# Altium footprint library QFP_Thin_Sq_40P_Side_M.PcbLib: 9 footprints
Each footprint in its own frame and in the unit in brackets; x right, y up, seen from the top. Pads: shape width x height; smd on the part's side, far side on the other; paste and mask are expansions set on the pad; w line width, h text height; cw(c..) or ccw(c..) is an arc to the next point about the centre after c.
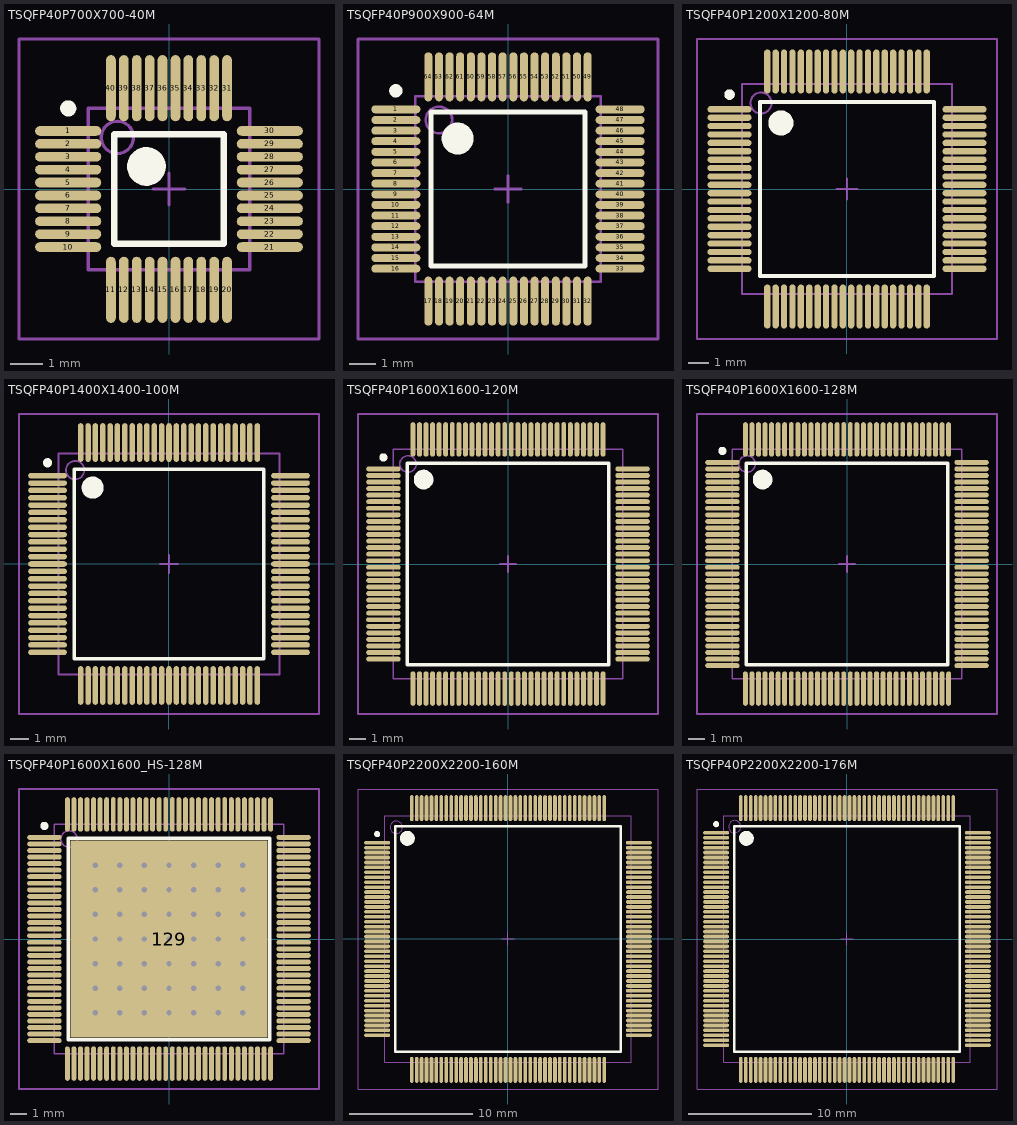
[diagram p0: the footprints below, top view; thin cyan lines are the x and y axes]

## TSQFP40P700X700-40M [mm] "Thin QFP, 40-Leads, Body 5x5mm, Pitch 0.4mm, IPC Low Density"
height 1.2
pads (40):
  oval 2.05x0.3 smd: 1(-3.125,1.8) 2(-3.125,1.4) 3(-3.125,1) 4(-3.125,0.6) 5(-3.125,0.2) 6(-3.125,-0.2) 7(-3.125,-0.6) 8(-3.125,-1) 9(-3.125,-1.4) 10(-3.125,-1.8) 21(3.125,-1.8) 22(3.125,-1.4) 23(3.125,-1) 24(3.125,-0.6) 25(3.125,-0.2) 26(3.125,0.2) 27(3.125,0.6) 28(3.125,1) 29(3.125,1.4) 30(3.125,1.8)
  oval 0.3x2.05 smd: 11(-1.8,-3.125) 12(-1.4,-3.125) 13(-1,-3.125) 14(-0.6,-3.125) 15(-0.2,-3.125) 16(0.2,-3.125) 17(0.6,-3.125) 18(1,-3.125) 19(1.4,-3.125) 20(1.8,-3.125) 31(1.8,3.125) 32(1.4,3.125) 33(1,3.125) 34(0.6,3.125) 35(0.2,3.125) 36(-0.2,3.125) 37(-0.6,3.125) 38(-1,3.125) 39(-1.4,3.125) 40(-1.8,3.125)
Top Overlay:
  circle w0.25: c-3.125,2.5 r0.125
  circle w0.6: c-0.7,0.7 r0.3
  lines w0.2: -1.7,-1.7 -1.7,1.7 1.7,1.7 1.7,-1.7 -1.7,-1.7
Mechanical 13:
  circle w0.1: c-1.6,1.6 r0.5
  lines w0.1: -2.5,-2.5 -2.5,2.5 2.5,2.5 2.5,-2.5 -2.5,-2.5
Mechanical 15:
  lines w0.1: -0.5,0 0.5,0 ; 0,-0.5 0,0.5 ; -4.65,-4.65 -4.65,4.65 4.65,4.65 4.65,-4.65 -4.65,-4.65
3D body: height 1.2, standoff 0, extent -2.5,-2.5 2.5,2.5

## TSQFP40P900X900-64M [mm] "Thin QFP, 64-Leads, Body 7x7mm, Pitch 0.4mm, IPC Low Density"
height 1.2
pads (64):
  oval 1.85x0.3 smd: 1(-4.225,3) 2(-4.225,2.6) 3(-4.225,2.2) 4(-4.225,1.8) 5(-4.225,1.4) 6(-4.225,1) 7(-4.225,0.6) 8(-4.225,0.2) 9(-4.225,-0.2) 10(-4.225,-0.6) 11(-4.225,-1) 12(-4.225,-1.4) 13(-4.225,-1.8) 14(-4.225,-2.2) 15(-4.225,-2.6) 16(-4.225,-3) 33(4.225,-3) 34(4.225,-2.6) 35(4.225,-2.2) 36(4.225,-1.8) 37(4.225,-1.4) 38(4.225,-1) 39(4.225,-0.6) 40(4.225,-0.2) 41(4.225,0.2) 42(4.225,0.6) 43(4.225,1) 44(4.225,1.4) 45(4.225,1.8) 46(4.225,2.2) 47(4.225,2.6) 48(4.225,3)
  oval 0.3x1.85 smd: 17(-3,-4.225) 18(-2.6,-4.225) 19(-2.2,-4.225) 20(-1.8,-4.225) 21(-1.4,-4.225) 22(-1,-4.225) 23(-0.6,-4.225) 24(-0.2,-4.225) 25(0.2,-4.225) 26(0.6,-4.225) 27(1,-4.225) 28(1.4,-4.225) 29(1.8,-4.225) 30(2.2,-4.225) 31(2.6,-4.225) 32(3,-4.225) 49(3,4.225) 50(2.6,4.225) 51(2.2,4.225) 52(1.8,4.225) 53(1.4,4.225) 54(1,4.225) 55(0.6,4.225) 56(0.2,4.225) 57(-0.2,4.225) 58(-0.6,4.225) 59(-1,4.225) 60(-1.4,4.225) 61(-1.8,4.225) 62(-2.2,4.225) 63(-2.6,4.225) 64(-3,4.225)
Top Overlay:
  circle w0.25: c-4.225,3.7 r0.125
  circle w0.6: c-1.9,1.9 r0.3
  lines w0.2: -2.9,-2.9 -2.9,2.9 2.9,2.9 2.9,-2.9 -2.9,-2.9
Mechanical 13:
  circle w0.1: c-2.6,2.6 r0.5
  lines w0.1: -3.5,-3.5 -3.5,3.5 3.5,3.5 3.5,-3.5 -3.5,-3.5
Mechanical 15:
  lines w0.1: -0.5,0 0.5,0 ; 0,-0.5 0,0.5 ; -5.65,-5.65 -5.65,5.65 5.65,5.65 5.65,-5.65 -5.65,-5.65
3D body: height 1.2, standoff 0, extent -3.5,-3.5 3.5,3.5

## TSQFP40P1200X1200-80M [mm] "Thin QFP, 80-Leads, Body 10x10mm, Pitch 0.4mm, IPC Low Density"
height 1.2
pads (80):
  oval 2.1x0.3 smd: 1(-5.6,3.8) 2(-5.6,3.4) 3(-5.6,3) 4(-5.6,2.6) 5(-5.6,2.2) 6(-5.6,1.8) 7(-5.6,1.4) 8(-5.6,1) 9(-5.6,0.6) 10(-5.6,0.2) 11(-5.6,-0.2) 12(-5.6,-0.6) 13(-5.6,-1) 14(-5.6,-1.4) 15(-5.6,-1.8) 16(-5.6,-2.2) 17(-5.6,-2.6) 18(-5.6,-3) 19(-5.6,-3.4) 20(-5.6,-3.8) 41(5.6,-3.8) 42(5.6,-3.4) 43(5.6,-3) 44(5.6,-2.6) 45(5.6,-2.2) 46(5.6,-1.8) 47(5.6,-1.4) 48(5.6,-1) 49(5.6,-0.6) 50(5.6,-0.2) 51(5.6,0.2) 52(5.6,0.6) 53(5.6,1) 54(5.6,1.4) 55(5.6,1.8) 56(5.6,2.2) 57(5.6,2.6) 58(5.6,3) 59(5.6,3.4) 60(5.6,3.8)
  oval 0.3x2.1 smd: 21(-3.8,-5.6) 22(-3.4,-5.6) 23(-3,-5.6) 24(-2.6,-5.6) 25(-2.2,-5.6) 26(-1.8,-5.6) 27(-1.4,-5.6) 28(-1,-5.6) 29(-0.6,-5.6) 30(-0.2,-5.6) 31(0.2,-5.6) 32(0.6,-5.6) 33(1,-5.6) 34(1.4,-5.6) 35(1.8,-5.6) 36(2.2,-5.6) 37(2.6,-5.6) 38(3,-5.6) 39(3.4,-5.6) 40(3.8,-5.6) 61(3.8,5.6) 62(3.4,5.6) 63(3,5.6) 64(2.6,5.6) 65(2.2,5.6) 66(1.8,5.6) 67(1.4,5.6) 68(1,5.6) 69(0.6,5.6) 70(0.2,5.6) 71(-0.2,5.6) 72(-0.6,5.6) 73(-1,5.6) 74(-1.4,5.6) 75(-1.8,5.6) 76(-2.2,5.6) 77(-2.6,5.6) 78(-3,5.6) 79(-3.4,5.6) 80(-3.8,5.6)
Top Overlay:
  circle w0.25: c-5.6,4.5 r0.125
  circle w0.6: c-3.15,3.15 r0.3
  lines w0.2: -4.15,-4.15 -4.15,4.15 4.15,4.15 4.15,-4.15 -4.15,-4.15
Mechanical 13:
  circle w0.1: c-4.1,4.1 r0.5
  lines w0.1: -5,-5 -5,5 5,5 5,-5 -5,-5
Mechanical 15:
  lines w0.1: -0.5,0 0.5,0 ; 0,-0.5 0,0.5 ; -7.15,-7.15 -7.15,7.15 7.15,7.15 7.15,-7.15 -7.15,-7.15
3D body: height 1.2, standoff 0, extent -5,-5 5,5

## TSQFP40P1400X1400-100M [mm] "Thin QFP, 100-Leads, Body 12x12mm, Pitch 0.4mm, IPC Low Density"
height 1.2
pads (100):
  oval 2.1x0.3 smd: 1(-6.6,4.8) 2(-6.6,4.4) 3(-6.6,4) 4(-6.6,3.6) 5(-6.6,3.2) 6(-6.6,2.8) 7(-6.6,2.4) 8(-6.6,2) 9(-6.6,1.6) 10(-6.6,1.2) 11(-6.6,0.8) 12(-6.6,0.4) 13(-6.6,0) 14(-6.6,-0.4) 15(-6.6,-0.8) 16(-6.6,-1.2) 17(-6.6,-1.6) 18(-6.6,-2) 19(-6.6,-2.4) 20(-6.6,-2.8) 21(-6.6,-3.2) 22(-6.6,-3.6) 23(-6.6,-4) 24(-6.6,-4.4) 25(-6.6,-4.8) 51(6.6,-4.8) 52(6.6,-4.4) 53(6.6,-4) 54(6.6,-3.6) 55(6.6,-3.2) 56(6.6,-2.8) 57(6.6,-2.4) 58(6.6,-2) 59(6.6,-1.6) 60(6.6,-1.2) 61(6.6,-0.8) 62(6.6,-0.4) 63(6.6,0) 64(6.6,0.4) 65(6.6,0.8) 66(6.6,1.2) 67(6.6,1.6) 68(6.6,2) 69(6.6,2.4) 70(6.6,2.8) 71(6.6,3.2) 72(6.6,3.6) 73(6.6,4) 74(6.6,4.4) 75(6.6,4.8)
  oval 0.3x2.1 smd: 26(-4.8,-6.6) 27(-4.4,-6.6) 28(-4,-6.6) 29(-3.6,-6.6) 30(-3.2,-6.6) 31(-2.8,-6.6) 32(-2.4,-6.6) 33(-2,-6.6) 34(-1.6,-6.6) 35(-1.2,-6.6) 36(-0.8,-6.6) 37(-0.4,-6.6) 38(0,-6.6) 39(0.4,-6.6) 40(0.8,-6.6) 41(1.2,-6.6) 42(1.6,-6.6) 43(2,-6.6) 44(2.4,-6.6) 45(2.8,-6.6) 46(3.2,-6.6) 47(3.6,-6.6) 48(4,-6.6) 49(4.4,-6.6) 50(4.8,-6.6) 76(4.8,6.6) 77(4.4,6.6) 78(4,6.6) 79(3.6,6.6) 80(3.2,6.6) 81(2.8,6.6) 82(2.4,6.6) 83(2,6.6) 84(1.6,6.6) 85(1.2,6.6) 86(0.8,6.6) 87(0.4,6.6) 88(0,6.6) 89(-0.4,6.6) 90(-0.8,6.6) 91(-1.2,6.6) 92(-1.6,6.6) 93(-2,6.6) 94(-2.4,6.6) 95(-2.8,6.6) 96(-3.2,6.6) 97(-3.6,6.6) 98(-4,6.6) 99(-4.4,6.6) 100(-4.8,6.6)
Top Overlay:
  circle w0.25: c-6.6,5.5 r0.125
  circle w0.6: c-4.15,4.15 r0.3
  lines w0.2: -5.15,-5.15 -5.15,5.15 5.15,5.15 5.15,-5.15 -5.15,-5.15
Mechanical 13:
  circle w0.1: c-5.1,5.1 r0.5
  lines w0.1: -6,-6 -6,6 6,6 6,-6 -6,-6
Mechanical 15:
  lines w0.1: -0.5,0 0.5,0 ; 0,-0.5 0,0.5 ; -8.15,-8.15 -8.15,8.15 8.15,8.15 8.15,-8.15 -8.15,-8.15
3D body: height 1.2, standoff 0, extent -6,-6 6,6

## TSQFP40P1600X1600-120M [mm] "Thin QFP, 120-Leads, Body 14x14mm, Pitch 0.4mm, IPC Low Density"
height 1.2
pads (120):
  oval 2.1x0.3 smd: 1(-7.6,5.8) 2(-7.6,5.4) 3(-7.6,5) 4(-7.6,4.6) 5(-7.6,4.2) 6(-7.6,3.8) 7(-7.6,3.4) 8(-7.6,3) 9(-7.6,2.6) 10(-7.6,2.2) 11(-7.6,1.8) 12(-7.6,1.4) 13(-7.6,1) 14(-7.6,0.6) 15(-7.6,0.2) 16(-7.6,-0.2) 17(-7.6,-0.6) 18(-7.6,-1) 19(-7.6,-1.4) 20(-7.6,-1.8) 21(-7.6,-2.2) 22(-7.6,-2.6) 23(-7.6,-3) 24(-7.6,-3.4) 25(-7.6,-3.8) 26(-7.6,-4.2) 27(-7.6,-4.6) 28(-7.6,-5) 29(-7.6,-5.4) 30(-7.6,-5.8) 61(7.6,-5.8) 62(7.6,-5.4) 63(7.6,-5) 64(7.6,-4.6) 65(7.6,-4.2) 66(7.6,-3.8) 67(7.6,-3.4) 68(7.6,-3) 69(7.6,-2.6) 70(7.6,-2.2) 71(7.6,-1.8) 72(7.6,-1.4) 73(7.6,-1) 74(7.6,-0.6) 75(7.6,-0.2) 76(7.6,0.2) 77(7.6,0.6) 78(7.6,1) 79(7.6,1.4) 80(7.6,1.8) 81(7.6,2.2) 82(7.6,2.6) 83(7.6,3) 84(7.6,3.4) 85(7.6,3.8) 86(7.6,4.2) 87(7.6,4.6) 88(7.6,5) 89(7.6,5.4) 90(7.6,5.8)
  oval 0.3x2.1 smd: 31(-5.8,-7.6) 32(-5.4,-7.6) 33(-5,-7.6) 34(-4.6,-7.6) 35(-4.2,-7.6) 36(-3.8,-7.6) 37(-3.4,-7.6) 38(-3,-7.6) 39(-2.6,-7.6) 40(-2.2,-7.6) 41(-1.8,-7.6) 42(-1.4,-7.6) 43(-1,-7.6) 44(-0.6,-7.6) 45(-0.2,-7.6) 46(0.2,-7.6) 47(0.6,-7.6) 48(1,-7.6) 49(1.4,-7.6) 50(1.8,-7.6) 51(2.2,-7.6) 52(2.6,-7.6) 53(3,-7.6) 54(3.4,-7.6) 55(3.8,-7.6) 56(4.2,-7.6) 57(4.6,-7.6) 58(5,-7.6) 59(5.4,-7.6) 60(5.8,-7.6) 91(5.8,7.6) 92(5.4,7.6) 93(5,7.6) 94(4.6,7.6) 95(4.2,7.6) 96(3.8,7.6) 97(3.4,7.6) 98(3,7.6) 99(2.6,7.6) 100(2.2,7.6) 101(1.8,7.6) 102(1.4,7.6) 103(1,7.6) 104(0.6,7.6) 105(0.2,7.6) 106(-0.2,7.6) 107(-0.6,7.6) 108(-1,7.6) 109(-1.4,7.6) 110(-1.8,7.6) 111(-2.2,7.6) 112(-2.6,7.6) 113(-3,7.6) 114(-3.4,7.6) 115(-3.8,7.6) 116(-4.2,7.6) 117(-4.6,7.6) 118(-5,7.6) 119(-5.4,7.6) 120(-5.8,7.6)
Top Overlay:
  circle w0.25: c-7.6,6.5 r0.125
  circle w0.6: c-5.15,5.15 r0.3
  lines w0.2: -6.15,-6.15 -6.15,6.15 6.15,6.15 6.15,-6.15 -6.15,-6.15
Mechanical 13:
  circle w0.1: c-6.1,6.1 r0.5
  lines w0.1: -7,-7 -7,7 7,7 7,-7 -7,-7
Mechanical 15:
  lines w0.1: -0.5,0 0.5,0 ; 0,-0.5 0,0.5 ; -9.15,-9.15 -9.15,9.15 9.15,9.15 9.15,-9.15 -9.15,-9.15
3D body: height 1.2, standoff 0, extent -7,-7 7,7

## TSQFP40P1600X1600-128M [mm] "Thin QFP, 128-Leads, Body 14x14mm, Pitch 0.4mm, IPC Low Density"
height 1.6
pads (128):
  oval 2.1x0.3 smd: 1(-7.6,6.2) 2(-7.6,5.8) 3(-7.6,5.4) 4(-7.6,5) 5(-7.6,4.6) 6(-7.6,4.2) 7(-7.6,3.8) 8(-7.6,3.4) 9(-7.6,3) 10(-7.6,2.6) 11(-7.6,2.2) 12(-7.6,1.8) 13(-7.6,1.4) 14(-7.6,1) 15(-7.6,0.6) 16(-7.6,0.2) 17(-7.6,-0.2) 18(-7.6,-0.6) 19(-7.6,-1) 20(-7.6,-1.4) 21(-7.6,-1.8) 22(-7.6,-2.2) 23(-7.6,-2.6) 24(-7.6,-3) 25(-7.6,-3.4) 26(-7.6,-3.8) 27(-7.6,-4.2) 28(-7.6,-4.6) 29(-7.6,-5) 30(-7.6,-5.4) 31(-7.6,-5.8) 32(-7.6,-6.2) 65(7.6,-6.2) 66(7.6,-5.8) 67(7.6,-5.4) 68(7.6,-5) 69(7.6,-4.6) 70(7.6,-4.2) 71(7.6,-3.8) 72(7.6,-3.4) 73(7.6,-3) 74(7.6,-2.6) 75(7.6,-2.2) 76(7.6,-1.8) 77(7.6,-1.4) 78(7.6,-1) 79(7.6,-0.6) 80(7.6,-0.2) 81(7.6,0.2) 82(7.6,0.6) 83(7.6,1) 84(7.6,1.4) 85(7.6,1.8) 86(7.6,2.2) 87(7.6,2.6) 88(7.6,3) 89(7.6,3.4) 90(7.6,3.8) 91(7.6,4.2) 92(7.6,4.6) 93(7.6,5) 94(7.6,5.4) 95(7.6,5.8) 96(7.6,6.2)
  oval 0.3x2.1 smd: 33(-6.2,-7.6) 34(-5.8,-7.6) 35(-5.4,-7.6) 36(-5,-7.6) 37(-4.6,-7.6) 38(-4.2,-7.6) 39(-3.8,-7.6) 40(-3.4,-7.6) 41(-3,-7.6) 42(-2.6,-7.6) 43(-2.2,-7.6) 44(-1.8,-7.6) 45(-1.4,-7.6) 46(-1,-7.6) 47(-0.6,-7.6) 48(-0.2,-7.6) 49(0.2,-7.6) 50(0.6,-7.6) 51(1,-7.6) 52(1.4,-7.6) 53(1.8,-7.6) 54(2.2,-7.6) 55(2.6,-7.6) 56(3,-7.6) 57(3.4,-7.6) 58(3.8,-7.6) 59(4.2,-7.6) 60(4.6,-7.6) 61(5,-7.6) 62(5.4,-7.6) 63(5.8,-7.6) 64(6.2,-7.6) 97(6.2,7.6) 98(5.8,7.6) 99(5.4,7.6) 100(5,7.6) 101(4.6,7.6) 102(4.2,7.6) 103(3.8,7.6) 104(3.4,7.6) 105(3,7.6) 106(2.6,7.6) 107(2.2,7.6) 108(1.8,7.6) 109(1.4,7.6) 110(1,7.6) 111(0.6,7.6) 112(0.2,7.6) 113(-0.2,7.6) 114(-0.6,7.6) 115(-1,7.6) 116(-1.4,7.6) 117(-1.8,7.6) 118(-2.2,7.6) 119(-2.6,7.6) 120(-3,7.6) 121(-3.4,7.6) 122(-3.8,7.6) 123(-4.2,7.6) 124(-4.6,7.6) 125(-5,7.6) 126(-5.4,7.6) 127(-5.8,7.6) 128(-6.2,7.6)
Top Overlay:
  circle w0.25: c-7.6,6.9 r0.125
  circle w0.6: c-5.15,5.15 r0.3
  lines w0.2: -6.15,-6.15 -6.15,6.15 6.15,6.15 6.15,-6.15 -6.15,-6.15
Mechanical 13:
  circle w0.1: c-6.1,6.1 r0.5
  lines w0.1: -7,-7 -7,7 7,7 7,-7 -7,-7
Mechanical 15:
  lines w0.1: -0.5,0 0.5,0 ; 0,-0.5 0,0.5 ; -9.15,-9.15 -9.15,9.15 9.15,9.15 9.15,-9.15 -9.15,-9.15
3D body: height 1.6, standoff 0, extent -7,-7 7,7

## TSQFP40P1600X1600_HS-128M [mm] "128-Pin Plastic Quad Flat Pack PowerPAD 0.4mm Pitch"
height 1.2
pads (129):
  oval 2.1x0.3 smd: 1(-7.6,6.2) 2(-7.6,5.8) 3(-7.6,5.4) 4(-7.6,5) 5(-7.6,4.6) 6(-7.6,4.2) 7(-7.6,3.8) 8(-7.6,3.4) 9(-7.6,3) 10(-7.6,2.6) 11(-7.6,2.2) 12(-7.6,1.8) 13(-7.6,1.4) 14(-7.6,1) 15(-7.6,0.6) 16(-7.6,0.2) 17(-7.6,-0.2) 18(-7.6,-0.6) 19(-7.6,-1) 20(-7.6,-1.4) 21(-7.6,-1.8) 22(-7.6,-2.2) 23(-7.6,-2.6) 24(-7.6,-3) 25(-7.6,-3.4) 26(-7.6,-3.8) 27(-7.6,-4.2) 28(-7.6,-4.6) 29(-7.6,-5) 30(-7.6,-5.4) 31(-7.6,-5.8) 32(-7.6,-6.2) 65(7.6,-6.2) 66(7.6,-5.8) 67(7.6,-5.4) 68(7.6,-5) 69(7.6,-4.6) 70(7.6,-4.2) 71(7.6,-3.8) 72(7.6,-3.4) 73(7.6,-3) 74(7.6,-2.6) 75(7.6,-2.2) 76(7.6,-1.8) 77(7.6,-1.4) 78(7.6,-1) 79(7.6,-0.6) 80(7.6,-0.2) 81(7.6,0.2) 82(7.6,0.6) 83(7.6,1) 84(7.6,1.4) 85(7.6,1.8) 86(7.6,2.2) 87(7.6,2.6) 88(7.6,3) 89(7.6,3.4) 90(7.6,3.8) 91(7.6,4.2) 92(7.6,4.6) 93(7.6,5) 94(7.6,5.4) 95(7.6,5.8) 96(7.6,6.2)
  oval 0.3x2.1 smd: 33(-6.2,-7.6) 34(-5.8,-7.6) 35(-5.4,-7.6) 36(-5,-7.6) 37(-4.6,-7.6) 38(-4.2,-7.6) 39(-3.8,-7.6) 40(-3.4,-7.6) 41(-3,-7.6) 42(-2.6,-7.6) 43(-2.2,-7.6) 44(-1.8,-7.6) 45(-1.4,-7.6) 46(-1,-7.6) 47(-0.6,-7.6) 48(-0.2,-7.6) 49(0.2,-7.6) 50(0.6,-7.6) 51(1,-7.6) 52(1.4,-7.6) 53(1.8,-7.6) 54(2.2,-7.6) 55(2.6,-7.6) 56(3,-7.6) 57(3.4,-7.6) 58(3.8,-7.6) 59(4.2,-7.6) 60(4.6,-7.6) 61(5,-7.6) 62(5.4,-7.6) 63(5.8,-7.6) 64(6.2,-7.6) 97(6.2,7.6) 98(5.8,7.6) 99(5.4,7.6) 100(5,7.6) 101(4.6,7.6) 102(4.2,7.6) 103(3.8,7.6) 104(3.4,7.6) 105(3,7.6) 106(2.6,7.6) 107(2.2,7.6) 108(1.8,7.6) 109(1.4,7.6) 110(1,7.6) 111(0.6,7.6) 112(0.2,7.6) 113(-0.2,7.6) 114(-0.6,7.6) 115(-1,7.6) 116(-1.4,7.6) 117(-1.8,7.6) 118(-2.2,7.6) 119(-2.6,7.6) 120(-3,7.6) 121(-3.4,7.6) 122(-3.8,7.6) 123(-4.2,7.6) 124(-4.6,7.6) 125(-5,7.6) 126(-5.4,7.6) 127(-5.8,7.6) 128(-6.2,7.6)
  rect 12x12 smd: 129(0,0)
via -4.5,-4.5 diameter 0.43 hole 0.33
via -3,-4.5 diameter 0.43 hole 0.33
via -1.5,-4.5 diameter 0.43 hole 0.33
via 0,-4.5 diameter 0.43 hole 0.33
via 1.5,-4.5 diameter 0.43 hole 0.33
via 3,-4.5 diameter 0.43 hole 0.33
via 4.5,-4.5 diameter 0.43 hole 0.33
via -4.5,4.5 diameter 0.43 hole 0.33
via -3,4.5 diameter 0.43 hole 0.33
via -1.5,4.5 diameter 0.43 hole 0.33
via 0,4.5 diameter 0.43 hole 0.33
via 1.5,4.5 diameter 0.43 hole 0.33
via 3,4.5 diameter 0.43 hole 0.33
via 4.5,4.5 diameter 0.43 hole 0.33
via -4.5,3 diameter 0.43 hole 0.33
via -3,3 diameter 0.43 hole 0.33
via -1.5,3 diameter 0.43 hole 0.33
via 0,3 diameter 0.43 hole 0.33
via 1.5,3 diameter 0.43 hole 0.33
via 3,3 diameter 0.43 hole 0.33
via 4.5,3 diameter 0.43 hole 0.33
via -4.5,1.5 diameter 0.43 hole 0.33
via -3,1.5 diameter 0.43 hole 0.33
via -1.5,1.5 diameter 0.43 hole 0.33
via 0,1.5 diameter 0.43 hole 0.33
via 1.5,1.5 diameter 0.43 hole 0.33
via 3,1.5 diameter 0.43 hole 0.33
via 4.5,1.5 diameter 0.43 hole 0.33
via -4.5,-3 diameter 0.43 hole 0.33
via -3,-3 diameter 0.43 hole 0.33
via -1.5,-3 diameter 0.43 hole 0.33
via 0,-3 diameter 0.43 hole 0.33
via 1.5,-3 diameter 0.43 hole 0.33
via 3,-3 diameter 0.43 hole 0.33
via 4.5,-3 diameter 0.43 hole 0.33
via 4.5,-1.5 diameter 0.43 hole 0.33
via 3,-1.5 diameter 0.43 hole 0.33
via 1.5,-1.5 diameter 0.43 hole 0.33
via 0,-1.5 diameter 0.43 hole 0.33
via -1.5,-1.5 diameter 0.43 hole 0.33
via -3,-1.5 diameter 0.43 hole 0.33
via -4.5,-1.5 diameter 0.43 hole 0.33
via -4.5,0 diameter 0.43 hole 0.33
via -3,0 diameter 0.43 hole 0.33
via -1.5,0 diameter 0.43 hole 0.33
via 4.5,0 diameter 0.43 hole 0.33
via 3,0 diameter 0.43 hole 0.33
via 1.5,0 diameter 0.43 hole 0.33
via 0,0 diameter 0.43 hole 0.33
Top Overlay:
  circle w0.25: c-7.6,6.9 r0.125
  circle w0.6: c-5.15,5.15 r0.3
  lines w0.2: -6.15,-6.15 -6.15,6.15 6.15,6.15 6.15,-6.15 -6.15,-6.15
Mechanical 13:
  circle w0.1: c-6.1,6.1 r0.5
  lines w0.1: -7,-7 -7,7 7,7 7,-7 -7,-7
Mechanical 15:
  lines w0.1: -0.5,0 0.5,0 ; 0,-0.5 0,0.5 ; -9.15,-9.15 -9.15,9.15 9.15,9.15 9.15,-9.15 -9.15,-9.15
3D body: height 1.2, standoff 0, extent -7,-7 7,7

## TSQFP40P2200X2200-160M [mm] "Thin QFP, 160-Leads, Body 20x20mm, Pitch 0.4mm, IPC Low Density"
height 1.6
pads (160):
  oval 2.1x0.3 smd: 1(-10.6,7.8) 2(-10.6,7.4) 3(-10.6,7) 4(-10.6,6.6) 5(-10.6,6.2) 6(-10.6,5.8) 7(-10.6,5.4) 8(-10.6,5) 9(-10.6,4.6) 10(-10.6,4.2) 11(-10.6,3.8) 12(-10.6,3.4) 13(-10.6,3) 14(-10.6,2.6) 15(-10.6,2.2) 16(-10.6,1.8) 17(-10.6,1.4) 18(-10.6,1) 19(-10.6,0.6) 20(-10.6,0.2) 21(-10.6,-0.2) 22(-10.6,-0.6) 23(-10.6,-1) 24(-10.6,-1.4) 25(-10.6,-1.8) 26(-10.6,-2.2) 27(-10.6,-2.6) 28(-10.6,-3) 29(-10.6,-3.4) 30(-10.6,-3.8) 31(-10.6,-4.2) 32(-10.6,-4.6) 33(-10.6,-5) 34(-10.6,-5.4) 35(-10.6,-5.8) 36(-10.6,-6.2) 37(-10.6,-6.6) 38(-10.6,-7) 39(-10.6,-7.4) 40(-10.6,-7.8) 81(10.6,-7.8) 82(10.6,-7.4) 83(10.6,-7) 84(10.6,-6.6) 85(10.6,-6.2) 86(10.6,-5.8) 87(10.6,-5.4) 88(10.6,-5) 89(10.6,-4.6) 90(10.6,-4.2) 91(10.6,-3.8) 92(10.6,-3.4) 93(10.6,-3) 94(10.6,-2.6) 95(10.6,-2.2) 96(10.6,-1.8) 97(10.6,-1.4) 98(10.6,-1) 99(10.6,-0.6) 100(10.6,-0.2) 101(10.6,0.2) 102(10.6,0.6) 103(10.6,1) 104(10.6,1.4) 105(10.6,1.8) 106(10.6,2.2) 107(10.6,2.6) 108(10.6,3) 109(10.6,3.4) 110(10.6,3.8) 111(10.6,4.2) 112(10.6,4.6) 113(10.6,5) 114(10.6,5.4) 115(10.6,5.8) 116(10.6,6.2) 117(10.6,6.6) 118(10.6,7) 119(10.6,7.4) 120(10.6,7.8)
  oval 0.3x2.1 smd: 41(-7.8,-10.6) 42(-7.4,-10.6) 43(-7,-10.6) 44(-6.6,-10.6) 45(-6.2,-10.6) 46(-5.8,-10.6) 47(-5.4,-10.6) 48(-5,-10.6) 49(-4.6,-10.6) 50(-4.2,-10.6) 51(-3.8,-10.6) 52(-3.4,-10.6) 53(-3,-10.6) 54(-2.6,-10.6) 55(-2.2,-10.6) 56(-1.8,-10.6) 57(-1.4,-10.6) 58(-1,-10.6) 59(-0.6,-10.6) 60(-0.2,-10.6) 61(0.2,-10.6) 62(0.6,-10.6) 63(1,-10.6) 64(1.4,-10.6) 65(1.8,-10.6) 66(2.2,-10.6) 67(2.6,-10.6) 68(3,-10.6) 69(3.4,-10.6) 70(3.8,-10.6) 71(4.2,-10.6) 72(4.6,-10.6) 73(5,-10.6) 74(5.4,-10.6) 75(5.8,-10.6) 76(6.2,-10.6) 77(6.6,-10.6) 78(7,-10.6) 79(7.4,-10.6) 80(7.8,-10.6) 121(7.8,10.6) 122(7.4,10.6) 123(7,10.6) 124(6.6,10.6) 125(6.2,10.6) 126(5.8,10.6) 127(5.4,10.6) 128(5,10.6) 129(4.6,10.6) 130(4.2,10.6) 131(3.8,10.6) 132(3.4,10.6) 133(3,10.6) 134(2.6,10.6) 135(2.2,10.6) 136(1.8,10.6) 137(1.4,10.6) 138(1,10.6) 139(0.6,10.6) 140(0.2,10.6) 141(-0.2,10.6) 142(-0.6,10.6) 143(-1,10.6) 144(-1.4,10.6) 145(-1.8,10.6) 146(-2.2,10.6) 147(-2.6,10.6) 148(-3,10.6) 149(-3.4,10.6) 150(-3.8,10.6) 151(-4.2,10.6) 152(-4.6,10.6) 153(-5,10.6) 154(-5.4,10.6) 155(-5.8,10.6) 156(-6.2,10.6) 157(-6.6,10.6) 158(-7,10.6) 159(-7.4,10.6) 160(-7.8,10.6)
Top Overlay:
  circle w0.25: c-10.6,8.5 r0.125
  circle w0.6: c-8.15,8.15 r0.3
  lines w0.2: -9.15,-9.15 -9.15,9.15 9.15,9.15 9.15,-9.15 -9.15,-9.15
Mechanical 13:
  circle w0.1: c-9.05,9.05 r0.5
  lines w0.1: -10,-10 -10,10 10,10 10,-10 -10,-10
Mechanical 15:
  lines w0.1: -0.5,0 0.5,0 ; 0,-0.5 0,0.5 ; -12.15,-12.15 -12.15,12.15 12.15,12.15 12.15,-12.15 -12.15,-12.15
3D body: height 1.6, standoff 0.05, extent -10,-10 10,10

## TSQFP40P2200X2200-176M [mm] "Thin QFP, 176-Leads, Body 20x20mm, Pitch 0.4mm, IPC Low Density"
height 1.2
pads (176):
  oval 2.1x0.3 smd: 1(-10.6,8.6) 2(-10.6,8.2) 3(-10.6,7.8) 4(-10.6,7.4) 5(-10.6,7) 6(-10.6,6.6) 7(-10.6,6.2) 8(-10.6,5.8) 9(-10.6,5.4) 10(-10.6,5) 11(-10.6,4.6) 12(-10.6,4.2) 13(-10.6,3.8) 14(-10.6,3.4) 15(-10.6,3) 16(-10.6,2.6) 17(-10.6,2.2) 18(-10.6,1.8) 19(-10.6,1.4) 20(-10.6,1) 21(-10.6,0.6) 22(-10.6,0.2) 23(-10.6,-0.2) 24(-10.6,-0.6) 25(-10.6,-1) 26(-10.6,-1.4) 27(-10.6,-1.8) 28(-10.6,-2.2) 29(-10.6,-2.6) 30(-10.6,-3) 31(-10.6,-3.4) 32(-10.6,-3.8) 33(-10.6,-4.2) 34(-10.6,-4.6) 35(-10.6,-5) 36(-10.6,-5.4) 37(-10.6,-5.8) 38(-10.6,-6.2) 39(-10.6,-6.6) 40(-10.6,-7) 41(-10.6,-7.4) 42(-10.6,-7.8) 43(-10.6,-8.2) 44(-10.6,-8.6) 89(10.6,-8.6) 90(10.6,-8.2) 91(10.6,-7.8) 92(10.6,-7.4) 93(10.6,-7) 94(10.6,-6.6) 95(10.6,-6.2) 96(10.6,-5.8) 97(10.6,-5.4) 98(10.6,-5) 99(10.6,-4.6) 100(10.6,-4.2) 101(10.6,-3.8) 102(10.6,-3.4) 103(10.6,-3) 104(10.6,-2.6) 105(10.6,-2.2) 106(10.6,-1.8) 107(10.6,-1.4) 108(10.6,-1) 109(10.6,-0.6) 110(10.6,-0.2) 111(10.6,0.2) 112(10.6,0.6) 113(10.6,1) 114(10.6,1.4) 115(10.6,1.8) 116(10.6,2.2) 117(10.6,2.6) 118(10.6,3) 119(10.6,3.4) 120(10.6,3.8) 121(10.6,4.2) 122(10.6,4.6) 123(10.6,5) 124(10.6,5.4) 125(10.6,5.8) 126(10.6,6.2) 127(10.6,6.6) 128(10.6,7) 129(10.6,7.4) 130(10.6,7.8) 131(10.6,8.2) 132(10.6,8.6)
  oval 0.3x2.1 smd: 45(-8.6,-10.6) 46(-8.2,-10.6) 47(-7.8,-10.6) 48(-7.4,-10.6) 49(-7,-10.6) 50(-6.6,-10.6) 51(-6.2,-10.6) 52(-5.8,-10.6) 53(-5.4,-10.6) 54(-5,-10.6) 55(-4.6,-10.6) 56(-4.2,-10.6) 57(-3.8,-10.6) 58(-3.4,-10.6) 59(-3,-10.6) 60(-2.6,-10.6) 61(-2.2,-10.6) 62(-1.8,-10.6) 63(-1.4,-10.6) 64(-1,-10.6) 65(-0.6,-10.6) 66(-0.2,-10.6) 67(0.2,-10.6) 68(0.6,-10.6) 69(1,-10.6) 70(1.4,-10.6) 71(1.8,-10.6) 72(2.2,-10.6) 73(2.6,-10.6) 74(3,-10.6) 75(3.4,-10.6) 76(3.8,-10.6) 77(4.2,-10.6) 78(4.6,-10.6) 79(5,-10.6) 80(5.4,-10.6) 81(5.8,-10.6) 82(6.2,-10.6) 83(6.6,-10.6) 84(7,-10.6) 85(7.4,-10.6) 86(7.8,-10.6) 87(8.2,-10.6) 88(8.6,-10.6) 133(8.6,10.6) 134(8.2,10.6) 135(7.8,10.6) 136(7.4,10.6) 137(7,10.6) 138(6.6,10.6) 139(6.2,10.6) 140(5.8,10.6) 141(5.4,10.6) 142(5,10.6) 143(4.6,10.6) 144(4.2,10.6) 145(3.8,10.6) 146(3.4,10.6) 147(3,10.6) 148(2.6,10.6) 149(2.2,10.6) 150(1.8,10.6) 151(1.4,10.6) 152(1,10.6) 153(0.6,10.6) 154(0.2,10.6) 155(-0.2,10.6) 156(-0.6,10.6) 157(-1,10.6) 158(-1.4,10.6) 159(-1.8,10.6) 160(-2.2,10.6) 161(-2.6,10.6) 162(-3,10.6) 163(-3.4,10.6) 164(-3.8,10.6) 165(-4.2,10.6) 166(-4.6,10.6) 167(-5,10.6) 168(-5.4,10.6) 169(-5.8,10.6) 170(-6.2,10.6) 171(-6.6,10.6) 172(-7,10.6) 173(-7.4,10.6) 174(-7.8,10.6) 175(-8.2,10.6) 176(-8.6,10.6)
Top Overlay:
  circle w0.25: c-10.6,9.3 r0.125
  circle w0.6: c-8.15,8.15 r0.3
  lines w0.2: -9.15,-9.15 -9.15,9.15 9.15,9.15 9.15,-9.15 -9.15,-9.15
Mechanical 13:
  circle w0.1: c-9.1,9.1 r0.5
  lines w0.1: -10,-10 -10,10 10,10 10,-10 -10,-10
Mechanical 15:
  lines w0.1: -0.5,0 0.5,0 ; 0,-0.5 0,0.5 ; -12.15,-12.15 -12.15,12.15 12.15,12.15 12.15,-12.15 -12.15,-12.15
3D body: height 1.2, standoff 0, extent -10,-10 10,10